# Altium footprint library switch.PCBLIB: 92 footprints (part 4 of 6)
Each footprint in its own frame and in the unit in brackets; x right, y up, seen from the top. Pads: shape width x height; smd on the part's side, far side on the other; paste and mask are expansions set on the pad; w line width, h text height; cw(c..) or ccw(c..) is an arc to the next point about the centre after c.
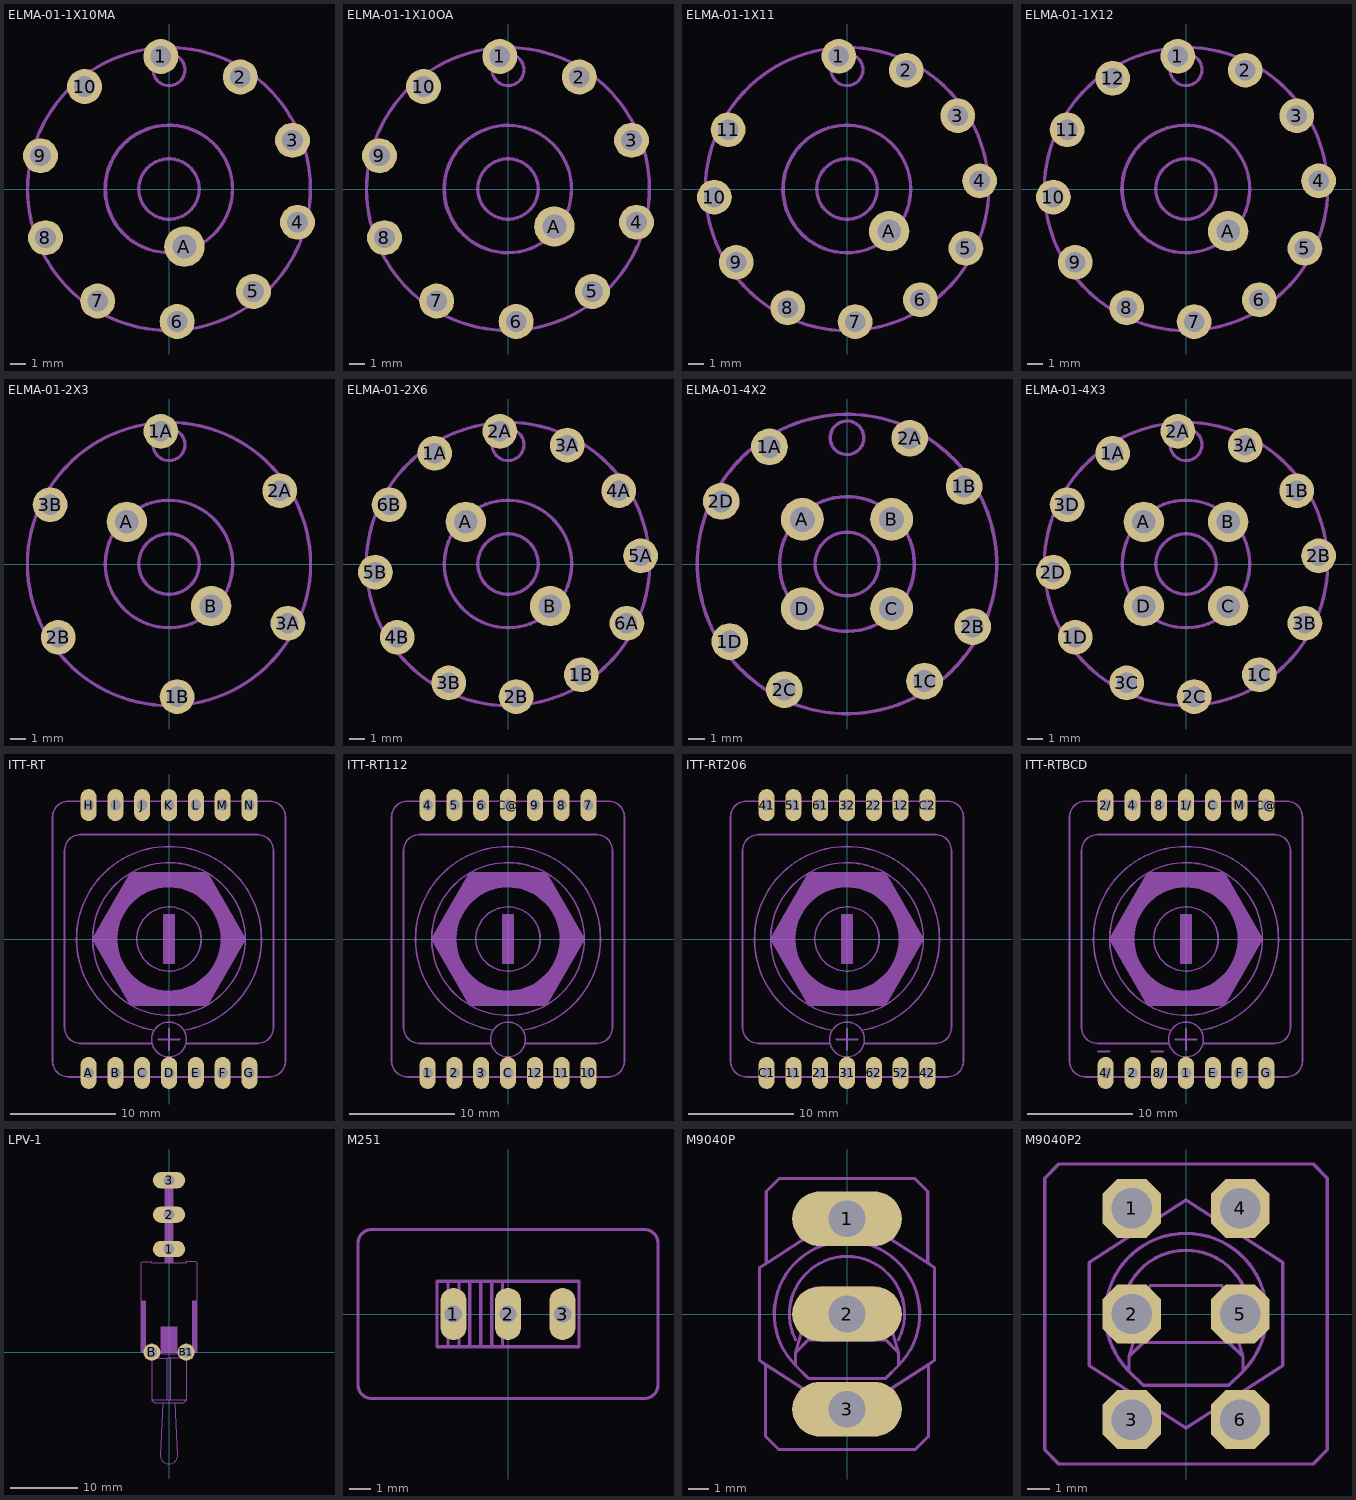
[diagram p3: the footprints below, top view; thin cyan lines are the x and y axes]

## ELMA-01-1X10MA [mil]
pads (11):
  round 86.61 hole 51.18: 1(-20.07,328.13) 2(176.63,277.26) 3(305.87,120.48) 4(318.27,-82.31) 5(209.11,-253.67) 6(20.07,-328.13) 7(-176.63,-277.26) 8(-305.87,-120.48) 9(-318.27,82.31) 10(-209.11,253.67)
  round 100 hole 59.06: A(38.21,-142.61)
Mechanical 2:
  circle w8: c0,0 r74.8
  lines w8: -348.54,32.52 ccw(c0.42,-0.2) -342.44,-72.94 ; -319.92,142.27 cw(c0.23,-0.43) -262.86,231.18 ; -301.09,-178.55 ccw(c0.48,0.08) -234.17,-260.29 ; -175.2,303.15 cw(c-0.07,-0.51) -76.77,341.54 ; -138.63,-321.43 ccw(c0.33,0.33) -36.45,-348.22 ; -31.87,-154.55 cw(c-0.61,0.36) 98.03,-123.11 ; 36.44,348.21 cw(c-0.33,-0.33) 138.63,321.42 ; 76.77,-341.52 ccw(c0.09,0.49) 175.19,-303.14 ; 234.16,260.29 cw(c-0.47,-0.06) 301.08,178.55 ; 262.85,-231.17 ccw(c-0.21,0.43) 319.91,-142.27 ; 342.43,72.94 cw(c-0.42,0.2) 348.53,-32.52
Mechanical 18:
  circle w8: c0,0 r350.39
  circle w8: c0,0 r157.48
  circle w8: c0,295.28 r39.37

## ELMA-01-1X10OA [mil]
pads (11):
  round 86.61 hole 51.18: 1(-20.07,328.13) 2(176.63,277.26) 3(305.87,120.48) 4(318.27,-82.31) 5(209.11,-253.67) 6(20.07,-328.13) 7(-176.63,-277.26) 8(-305.87,-120.48) 9(-318.27,82.31) 10(-209.11,253.67)
  round 100 hole 59.06: A(114.74,-92.91)
Mechanical 2:
  circle w8: c0,0 r74.8
  lines w8: -348.54,32.52 ccw(c0.42,-0.2) -342.44,-72.94 ; -319.92,142.27 cw(c0.23,-0.43) -262.86,231.18 ; -301.09,-178.55 ccw(c0.48,0.08) -234.17,-260.29 ; -175.2,303.15 cw(c-0.07,-0.51) -76.77,341.54 ; -138.63,-321.43 ccw(c0.33,0.33) -36.45,-348.22 ; 36.44,348.21 cw(c-0.33,-0.33) 138.63,321.42 ; 67.06,-142.84 cw(c-0.7,-0.07) 152.24,-39.85 ; 76.77,-341.52 ccw(c0.09,0.49) 175.19,-303.14 ; 234.16,260.29 cw(c-0.47,-0.06) 301.08,178.55 ; 262.85,-231.17 ccw(c-0.21,0.43) 319.91,-142.27 ; 342.43,72.94 cw(c-0.42,0.2) 348.53,-32.52
Mechanical 18:
  circle w8: c0,0 r350.39
  circle w8: c0,0 r157.48
  circle w8: c0,295.28 r39.37

## ELMA-01-1X11 [mil]
pads (12):
  round 86 hole 51.18: 1(-20.07,328.13) 2(146.68,294.2) 3(274.13,181.44) 4(328.12,20.07) 5(294.19,-146.68) 6(181.44,-274.13) 7(20.07,-328.13) 8(-146.68,-294.2) 9(-274.13,-181.44) 10(-328.12,-20.07) 11(-294.19,146.68)
  round 100 hole 59.06: A(104.4,-104.4)
Mechanical 2:
  circle w8: c0,0 r74.8
  lines w8: -348.8,29.33 cw(c0.32,-0.54) -332.43,109.25 ; -342.52,-71.6 ccw(c0.54,-0.27) -316.73,-148.99 ; -283.4,205.04 cw(c-2.08,3.53) -71.6,342.52 ; -260.83,-233.27 ccw(c0.6,0.02) -199.8,-287.4 ; -109.25,-332.43 ccw(c0.54,0.31) -29.33,-348.8 ; 29.33,348.8 cw(c-0.54,-0.31) 109.25,332.43 ; 50.2,-149.61 cw(c-0.7,-0.01) 146.65,-57.09 ; 71.6,-342.52 ccw(c0.27,0.54) 148.99,-316.73 ; 199.8,287.4 cw(c-0.6,-0.02) 260.83,233.27 ; 233.27,-260.83 ccw(c-0.03,0.61) 287.4,-199.8 ; 316.73,148.99 cw(c-0.54,0.27) 342.52,71.6 ; 332.43,-109.25 ccw(c-0.32,0.54) 348.8,-29.33
Mechanical 18:
  circle w8: c0,0 r350.39
  circle w8: c0,0 r157.48
  circle w8: c0,295.28 r39.37

## ELMA-01-1X12 [mil]
pads (13):
  round 86 hole 51.18: 1(-20.07,328.13) 2(146.68,294.2) 3(274.13,181.44) 4(328.12,20.07) 5(294.19,-146.68) 6(181.44,-274.13) 7(20.07,-328.13) 8(-146.68,-294.2) 9(-274.13,-181.44) 10(-328.12,-20.07) 11(-294.19,146.68) 12(-181.44,274.13)
  round 100 hole 59.06: A(104.4,-104.4)
Mechanical 2:
  circle w8: c0,0 r74.8
  lines w8: -348.8,29.33 cw(c0.32,-0.54) -332.43,109.25 ; -342.52,-71.6 ccw(c0.54,-0.27) -316.73,-148.99 ; -287.4,199.8 cw(c0.03,-0.61) -233.27,260.83 ; -260.83,-233.27 ccw(c0.61,0.02) -199.8,-287.4 ; -148.99,316.73 cw(c-0.27,-0.54) -71.6,342.52 ; -109.25,-332.43 ccw(c0.54,0.31) -29.33,-348.8 ; 29.33,348.8 cw(c-0.54,-0.31) 109.25,332.43 ; 50.2,-149.61 cw(c-0.7,-0.01) 146.65,-57.09 ; 71.6,-342.52 ccw(c0.27,0.54) 148.99,-316.73 ; 199.8,287.4 cw(c-0.6,-0.02) 260.83,233.27 ; 233.27,-260.83 ccw(c-0.03,0.61) 287.4,-199.8 ; 316.73,148.99 cw(c-0.54,0.27) 342.52,71.6 ; 332.43,-109.25 ccw(c-0.32,0.54) 348.8,-29.33
Mechanical 18:
  circle w8: c0,0 r350.39
  circle w8: c0,0 r157.48
  circle w8: c0,295.28 r39.37

## ELMA-01-2X3 [mil]
pads (8):
  round 86 hole 51.18: 1A(-20.07,328.13) 1B(20.07,-328.13) 2A(274.13,181.44) 2B(-274.13,-181.44) 3A(294.19,-146.68) 3B(-294.19,146.68)
  round 100 hole 59.06: A(-104.4,104.4) B(104.4,-104.4)
Mechanical 2:
  circle w8: c0,0 r74.8
  lines w8: -332.43,109.25 ccw(c-4.11,-0.04) -319.27,-142.91 ; -283.4,205.04 cw(c-2.08,3.53) -71.6,342.52 ; -260.82,-233.27 ccw(c-2.02,-3.59) -35.87,-347.95 ; -146.65,57.09 ccw(c0.6,0.16) 56.1,-147.64 ; -56.1,147.64 cw(c-0.6,-0.16) 146.65,-57.09 ; 35.87,347.95 cw(c2.02,3.59) 260.82,233.27 ; 71.6,-342.52 ccw(c2.08,-3.53) 283.4,-205.04 ; 319.27,142.91 cw(c4.11,0.04) 332.43,-109.25
Mechanical 18:
  circle w8: c0,0 r350.39
  circle w8: c0,0 r157.48
  circle w8: c0,295.28 r39.37

## ELMA-01-2X6 [mil]
pads (14):
  round 86 hole 51.18: 1A(-181.44,274.13) 1B(181.44,-274.13) 2A(-20.07,328.13) 2B(20.07,-328.13) 3A(146.68,294.2) 3B(-146.68,-294.2) 4A(274.13,181.44) 4B(-274.13,-181.44) 5A(328.12,20.07) 5B(-328.12,-20.07) 6A(294.19,-146.68) 6B(-294.19,146.68)
  round 100 hole 59.06: A(-104.4,104.4) B(104.4,-104.4)
Mechanical 2:
  circle w8: c0,0 r74.8
  lines w8: -348.8,29.33 cw(c0.32,-0.54) -332.43,109.25 ; -342.52,-71.6 ccw(c0.54,-0.27) -316.73,-148.99 ; -287.4,199.8 cw(c0.03,-0.61) -233.27,260.83 ; -260.83,-233.27 ccw(c0.6,0.02) -199.8,-287.4 ; -148.99,316.73 cw(c-0.27,-0.54) -71.6,342.52 ; -146.65,57.09 ccw(c0.6,0.16) 56.1,-147.64 ; -109.25,-332.43 ccw(c0.54,0.31) -29.33,-348.8 ; -56.1,147.64 cw(c-0.6,-0.16) 146.65,-57.09 ; 29.33,348.8 cw(c-0.54,-0.31) 109.25,332.43 ; 71.6,-342.52 ccw(c0.27,0.54) 148.99,-316.73 ; 199.8,287.4 cw(c-0.6,-0.02) 260.83,233.27 ; 233.27,-260.83 ccw(c-0.03,0.61) 287.4,-199.8 ; 316.73,148.99 cw(c-0.54,0.27) 342.52,71.6 ; 332.43,-109.25 ccw(c-0.32,0.54) 348.8,-29.33
Mechanical 18:
  circle w8: c0,0 r350.39
  circle w8: c0,0 r157.48
  circle w8: c0,295.28 r39.37

## ELMA-01-4X2 [mil]
pads (12):
  round 86 hole 51.18: 1A(-181.44,274.13) 1B(274.13,181.44) 1C(181.44,-274.13) 1D(-274.13,-181.44) 2A(146.68,294.2) 2B(294.19,-146.68) 2C(-146.68,-294.2) 2D(-294.19,146.68)
  round 100 hole 59.06: A(-104.4,104.4) B(104.4,104.4) C(104.4,-104.4) D(-104.4,-104.4)
Mechanical 2:
  circle w8: c0,0 r74.8
  lines w8: -332.43,109.25 ccw(c-4.11,-0.04) -319.27,-142.91 ; -287.4,199.8 cw(c0.03,-0.61) -233.27,260.83 ; -260.83,-233.27 ccw(c0.6,0.02) -199.8,-287.4 ; -147.64,-56.1 cw(c3.72,-0.58) -145.67,60.04 ; -142.91,319.27 cw(c-0.04,4.11) 109.25,332.43 ; -109.25,-332.43 ccw(c0.04,-4.15) 142.91,-319.27 ; -60.04,-145.67 ccw(c0.58,3.63) 56.1,-147.64 ; -56.1,147.64 cw(c-0.58,-3.72) 60.04,145.67 ; 145.67,-60.04 ccw(c-3.72,0.58) 147.64,56.1 ; 199.8,287.4 cw(c-0.6,-0.02) 260.83,233.27 ; 233.27,-260.83 ccw(c-0.03,0.61) 287.4,-199.8 ; 319.27,142.91 cw(c4.11,0.04) 332.43,-109.25
Mechanical 18:
  circle w8: c0,0 r350.39
  circle w8: c0,0 r157.48
  circle w8: c0,295.28 r39.37

## ELMA-01-4X3 [mil]
pads (16):
  round 86 hole 51.18: 1A(-181.44,274.13) 1B(274.13,181.44) 1C(181.44,-274.13) 1D(-274.13,-181.44) 2A(-20.07,328.13) 2B(328.12,20.07) 2C(20.07,-328.13) 2D(-328.12,-20.07) 3A(146.68,294.2) 3B(294.19,-146.68) 3C(-146.68,-294.2) 3D(-294.19,146.68)
  round 100 hole 59.06: A(-104.4,104.4) B(104.4,104.4) C(104.4,-104.4) D(-104.4,-104.4)
Mechanical 2:
  circle w8: c0,0 r74.8
  lines w8: -348.8,29.33 cw(c0.32,-0.54) -332.43,109.25 ; -342.52,-71.6 ccw(c0.54,-0.27) -316.73,-148.99 ; -287.4,199.8 cw(c0.03,-0.61) -233.27,260.83 ; -260.83,-233.27 ccw(c0.6,0.02) -199.8,-287.4 ; -148.99,316.73 cw(c-0.27,-0.54) -71.6,342.52 ; -146.65,57.09 ccw(c0.6,0.16) 56.1,-147.64 ; -109.25,-332.43 ccw(c0.54,0.31) -29.33,-348.8 ; -56.1,147.64 cw(c-0.6,-0.16) 146.65,-57.09 ; 29.33,348.8 cw(c-0.54,-0.31) 109.25,332.43 ; 71.6,-342.52 ccw(c0.27,0.54) 148.99,-316.73 ; 199.8,287.4 cw(c-0.6,-0.02) 260.83,233.27 ; 233.27,-260.83 ccw(c-0.03,0.61) 287.4,-199.8 ; 316.73,148.99 cw(c-0.54,0.27) 342.52,71.6 ; 332.43,-109.25 ccw(c-0.32,0.54) 348.8,-29.33
Mechanical 18:
  circle w8: c0,0 r350.39
  circle w8: c0,0 r157.48
  circle w8: c0,295.28 r39.37

## ITT-RT [mil]
pads (14):
  oval 60x120 hole 40: A(-300,-500) B(-200,-500) C(-100,-500) D(0,-500) E(100,-500) F(200,-500) G(300,-500) H(-300,500) I(-200,500) J(-100,500) K(0,500) L(100,500) M(200,500) N(300,500)
Mechanical 2:
  circle w6: c0,-375 r65
  circle w6: c0,0 r195
  circle w6: c0,0 r285
  circle w6: c0,0 r120
  circle w50: c0,0 r220.81
  rectangle: -20,-90 20,90
  lines w6: -335,-515 -375,-515 cw(c-375,-455) -435,-455 -435,455 cw(c-375,455) -375,515 -335,515 ; -265,-515 -235,-515 ; -265,515 -235,515 ; -165,-515 -135,-515 ; -165,515 -135,515 ; -65,-515 -35,-515 ; -65,515 -35,515 ; -63,-390 -330,-390 cw(c-330,-330) -390,-330 -390,330 cw(c-330,330) -330,390 330,390 cw(c330,330) 390,330 390,-330 cw(c330,-330) 330,-390 63,-390 ; -55,-341 cw(c0,0) 55,-341 ; -40,-375 40,-375 ; 0,-415 0,-335 ; 35,-515 65,-515 ; 35,515 65,515 ; 135,-515 165,-515 ; 135,515 165,515 ; 235,-515 265,-515 ; 235,515 265,515 ; 335,-515 375,-515 ccw(c375,-455) 435,-455 435,455 ccw(c375,455) 375,515 335,515 ; -285,0 -143,-247 143,-247 285,0 143,247 -143,247 -285,0 ; -20,-90 -20,90 20,90 20,-90 -20,-90
  lines w46: -260.09,0 -129.52,223.98 129.52,223.98 257.97,0 129.52,-225.05 -128.45,-225.05 -254.78,-7.43
Mechanical 18:
  lines w6: -335,-515 -265,-515 ; -335,515 -265,515 ; -235,-515 -165,-515 ; -235,515 -165,515 ; -135,-515 -65,-515 ; -135,515 -65,515 ; -35,-515 35,-515 ; -35,515 35,515 ; 65,-515 135,-515 ; 65,515 135,515 ; 165,-515 235,-515 ; 165,515 235,515 ; 265,-515 335,-515 ; 265,515 335,515

## ITT-RT112 [mil]
pads (14):
  oval 60x120 hole 40: 1(-300,-500) 2(-200,-500) 3(-100,-500) 4(-300,500) 5(-200,500) 6(-100,500) 7(300,500) 8(200,500) 9(100,500) 10(300,-500) 11(200,-500) 12(100,-500) C(0,-500) C@(0,500)
Mechanical 2:
  circle w6: c0,-375 r65
  circle w6: c0,0 r195
  circle w6: c0,0 r285
  circle w6: c0,0 r120
  circle w50: c0,0 r220.81
  rectangle: -20,-90 20,90
  lines w6: -335,-515 -375,-515 cw(c-375,-455) -435,-455 -435,455 cw(c-375,455) -375,515 -335,515 ; -265,-515 -235,-515 ; -265,515 -235,515 ; -165,-515 -135,-515 ; -165,515 -135,515 ; -65,-515 -35,-515 ; -65,515 -35,515 ; -63,-390 -330,-390 cw(c-330,-330) -390,-330 -390,330 cw(c-330,330) -330,390 330,390 cw(c330,330) 390,330 390,-330 cw(c330,-330) 330,-390 63,-390 ; -55,-341 cw(c0,0) 55,-341 ; 35,-515 65,-515 ; 35,515 65,515 ; 135,-515 165,-515 ; 135,515 165,515 ; 235,-515 265,-515 ; 235,515 265,515 ; 335,-515 375,-515 ccw(c375,-455) 435,-455 435,455 ccw(c375,455) 375,515 335,515 ; -285,0 -143,-247 143,-247 285,0 143,247 -143,247 -285,0 ; -20,-90 -20,90 20,90 20,-90 -20,-90
  lines w46: -260.09,0 -129.52,223.98 129.52,223.98 257.97,0 129.52,-225.05 -128.45,-225.05 -254.78,-7.43
Mechanical 18:
  lines w6: -335,-515 -265,-515 ; -335,515 -265,515 ; -235,-515 -165,-515 ; -235,515 -165,515 ; -135,-515 -65,-515 ; -135,515 -65,515 ; -35,-515 35,-515 ; -35,515 35,515 ; 65,-515 135,-515 ; 65,515 135,515 ; 165,-515 235,-515 ; 165,515 235,515 ; 265,-515 335,-515 ; 265,515 335,515

## ITT-RT206 [mil]
pads (14):
  oval 60x120 hole 40: 11(-200,-500) 12(200,500) 21(-100,-500) 22(100,500) 31(0,-500) 32(0,500) 41(-300,500) 42(300,-500) 51(-200,500) 52(200,-500) 61(-100,500) 62(100,-500) C1(-300,-500) C2(300,500)
Mechanical 2:
  circle w6: c0,-375 r65
  circle w6: c0,0 r195
  circle w6: c0,0 r285
  circle w6: c0,0 r120
  circle w50: c0,0 r220.81
  rectangle: -20,-90 20,90
  lines w6: -335,-515 -375,-515 cw(c-375,-455) -435,-455 -435,455 cw(c-375,455) -375,515 -335,515 ; -265,-515 -235,-515 ; -265,515 -235,515 ; -165,-515 -135,-515 ; -165,515 -135,515 ; -65,-515 -35,-515 ; -65,515 -35,515 ; -63,-390 -330,-390 cw(c-330,-330) -390,-330 -390,330 cw(c-330,330) -330,390 330,390 cw(c330,330) 390,330 390,-330 cw(c330,-330) 330,-390 63,-390 ; -55,-341 cw(c0,0) 55,-341 ; -40,-375 40,-375 ; 0,-415 0,-335 ; 35,-515 65,-515 ; 35,515 65,515 ; 135,-515 165,-515 ; 135,515 165,515 ; 235,-515 265,-515 ; 235,515 265,515 ; 335,-515 375,-515 ccw(c375,-455) 435,-455 435,455 ccw(c375,455) 375,515 335,515 ; -285,0 -143,-247 143,-247 285,0 143,247 -143,247 -285,0 ; -20,-90 -20,90 20,90 20,-90 -20,-90
  lines w46: -260.09,0 -129.52,223.98 129.52,223.98 257.97,0 129.52,-225.05 -128.45,-225.05 -254.78,-7.43
Mechanical 18:
  lines w6: -335,-515 -265,-515 ; -335,515 -265,515 ; -235,-515 -165,-515 ; -235,515 -165,515 ; -135,-515 -65,-515 ; -135,515 -65,515 ; -35,-515 35,-515 ; -35,515 35,515 ; 65,-515 135,-515 ; 65,515 135,515 ; 165,-515 235,-515 ; 165,515 235,515 ; 265,-515 335,-515 ; 265,515 335,515

## ITT-RTBCD [mil]
pads (14):
  oval 60x120 hole 40: 1(0,-500) 1/(0,500) 2(-200,-500) 2/(-300,500) 4(-200,500) 4/(-300,-500) 8(-100,500) 8/(-100,-500) C(100,500) C@(300,500) E(100,-500) F(200,-500) G(300,-500) M(200,500)
Mechanical 2:
  circle w6: c0,-375 r65
  circle w6: c0,0 r195
  circle w6: c0,0 r285
  circle w6: c0,0 r120
  circle w50: c0,0 r220.81
  rectangle: -20,-90 20,90
  lines w6: -335,-515 -375,-515 cw(c-375,-455) -435,-455 -435,455 cw(c-375,455) -375,515 -335,515 ; -265,-515 -235,-515 ; -265,515 -235,515 ; -165,-515 -135,-515 ; -165,515 -135,515 ; -65,-515 -35,-515 ; -65,515 -35,515 ; -63,-390 -330,-390 cw(c-330,-330) -390,-330 -390,330 cw(c-330,330) -330,390 330,390 cw(c330,330) 390,330 390,-330 cw(c330,-330) 330,-390 63,-390 ; -55,-341 cw(c0,0) 55,-341 ; -40,-375 40,-375 ; 0,-415 0,-335 ; 35,-515 65,-515 ; 35,515 65,515 ; 135,-515 165,-515 ; 135,515 165,515 ; 235,-515 265,-515 ; 235,515 265,515 ; 335,-515 375,-515 ccw(c375,-455) 435,-455 435,455 ccw(c375,455) 375,515 335,515 ; -285,0 -143,-247 143,-247 285,0 143,247 -143,247 -285,0 ; -20,-90 -20,90 20,90 20,-90 -20,-90
  lines w46: -260.09,0 -129.52,223.98 129.52,223.98 257.97,0 129.52,-225.05 -128.45,-225.05 -254.78,-7.43
Mechanical 18:
  lines w6: -335,-515 -265,-515 ; -335,515 -265,515 ; -330,-420 -285,-420 ; -330,485 -285,485 ; -235,-515 -165,-515 ; -235,515 -165,515 ; -135,-515 -65,-515 ; -135,515 -65,515 ; -130,-420 -85,-420 ; -35,-515 35,-515 ; -35,515 35,515 ; -30,485 15,485 ; 65,-515 135,-515 ; 65,515 135,515 ; 165,-515 235,-515 ; 165,515 235,515 ; 265,-515 335,-515 ; 265,515 335,515

## LPV-1 [mil]
pads (5):
  oval 189x94.5 hole 63: 1(0,600) 2(0,800) 3(0,1000)
  round 100 hole 63: B(-100,0) B1(100,0)
Mechanical 2:
  rectangle: -25,520 25,550
  rectangle: -25,650 25,750
  rectangle: -25,850 25,950
  rectangle: 135,45 160,300
  rectangle: -40,0 40,150
  rectangle: -160,45 -135,300
  lines w6: -160,0 -160,520 -155,525 -100,525 -100,520 100,520 100,525 155,525 160,520 160,0 ; -100,-55 -100,-280 ; -55,-35 -10,-35 ; -45,-10 45,-10 ; -40,0 45,0 ; 55,-35 10,-35 ; 100,-55 100,-280 ; -100,-280 -85,-295 -35,-295 ; -100,-280 -10,-280 ; -35,-295 -50,-600 ccw(c0,-600) 50,-600 35,-295 ; -35,-295 35,-295 ; -10,-280 10,-280 ; -10,-280 -10,-35 ; -10,-35 10,-35 ; 10,-280 100,-280 ; 10,-280 10,-35 ; 35,-295 85,-295 100,-280
Mechanical 18:
  rectangle: -25,550 25,650
  rectangle: -25,750 25,850
  rectangle: -25,950 25,1015
  rectangle: 135,0 160,45
  rectangle: -50,0 -40,150
  rectangle: 40,0 50,150
  rectangle: -160,0 -135,45
  lines w6: -160,0 -145,0 ; -100,-55 -100,-35 ; -55,-35 -100,-35 ; -45,-10 -135,-10 ; -40,0 -145,0 ; 45,-10 135,-10 ; 45,0 145,0 ; 55,-35 100,-35 ; 100,-55 100,-35 ; 160,0 145,0 ; -145,0 -145,-10 -135,-10 ; -135,-10 -135,-35 -100,-35 ; 100,-35 135,-35 135,-10 ; 135,-10 145,-10 145,0

## M251 [mil]
pads (3):
  oval 48x96 hole 32: 1(-100,0) 2(0,0) 3(100,0)
Mechanical 2:
  lines w6: -130,-50 -130,-60 -120,-60 ; -130,50 -130,60 -120,60 ; -80,-60 -70,-60 ; -80,60 -70,60 ; -70,-50 -70,-60 ; -70,50 -70,60 ; -30,-50 -30,-60 ; -30,50 -30,60 ; -20,-60 -30,-60 ; -20,60 -30,60 ; 20,-60 80,-60 ; 20,60 80,60 ; 120,-60 130,-60 130,-50 ; 120,60 130,60 130,50 ; -70,-60 -50,-60 ; -70,60 -50,60 ; -50,-60 -30,-60 ; -50,-60 -50,60 ; -50,60 -30,60 ; -275,-130 ccw(c-250,-130) -250,-155 250,-155 ccw(c250,-130) 275,-130 275,130 ccw(c250,130) 250,155 -250,155 ccw(c-250,130) -275,130 -275,-130
Mechanical 18:
  lines w6: -130,-50 -130,50 ; -120,-60 -110,-60 ; -120,60 -110,60 ; -80,-60 -90,-60 ; -80,60 -90,60 ; -70,-50 -70,50 ; -30,-50 -30,50 ; -20,-60 -10,-60 ; -20,60 -10,60 ; 20,-60 -10,-60 ; 20,60 -10,60 ; 80,-60 120,-60 ; 80,60 120,60 ; 130,-50 130,50 ; -110,-60 -110,60 ; -110,-60 -90,-60 ; -110,60 -90,60 ; -90,-60 -90,60 ; -10,-60 -10,60

## M9040P [mil]
pads (3):
  oval 213x106.5 hole 71: 1(0,185) 2(0,0) 3(0,-185)
Mechanical 2:
  lines w6: -170,-90 -170,90 -157,98 -157,238 -132,263 132,263 157,238 157,99 170,90 170,-90 158,-98 158,-238 133,-263 -133,-263 -158,-238 -158,-98 -170,-90
Mechanical 18:
  lines w6: -158,-98 0,-200 158,-98 ; -157,98 0,200 157,99 ; -100,-50 cw(c0,0) 100,-50 ; -100,-100 -75,-125 75,-125 100,-100 ; -100,-100 -100,-75 ; -100,-100 cw(c0,0) 100,-100 ; -100,-75 -75,-50 75,-50 100,-75 ; -100,-75 -63,50 63,50 100,-75 ; 100,-100 100,-75

## M9040P2 [mil]
pads (6):
  oct 103.12x103.12 hole 71: 1(-95,185) 2(-95,0) 3(-95,-185) 4(95,185) 5(95,0) 6(95,-185)
Mechanical 2:
  lines w6: -248,-238 -223,-263 223,-263 248,-238 248,238 223,263 -223,263 -248,238 -248,-238
Mechanical 18:
  lines w6: -100,-50 cw(c0,0) 100,-50 ; -100,-100 -75,-125 75,-125 100,-100 ; -100,-100 -100,-75 ; -100,-100 cw(c0,0) 100,-100 ; -100,-75 -75,-50 75,-50 100,-75 ; -100,-75 -63,50 63,50 100,-75 ; 100,-100 100,-75 ; -170,-90 -170,90 0,200 170,90 170,-90 0,-200 -170,-90